# EAGLE library part MICRO-USB-SHIELD- (library ewheel32)
Hirose Micro USB Connector ZX62R-B-5P: Micro B, reverse (top mount) shell SMT Supplier: DigiKey H11574CT-ND Source: http://www.hirose.co.jp/cataloge_hp/e24200011.pdf
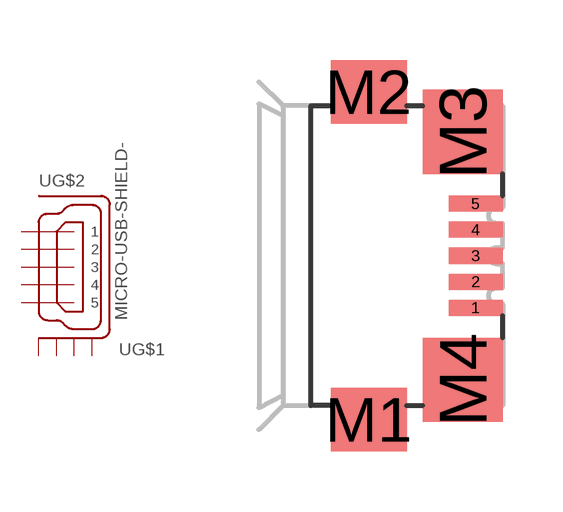
[diagram p2: symbol with the pads of ZX62R-B-5P; footprint ZX62R-B-5P]

Designator prefix -; gates G$1=USB-SHIELD G$2=MINI-USB

## MICRO-USB-SHIELD-ZX62R-B-5P  [ZX62R-B-5P]
1  G$2:1  in
2  G$2:2  in
3  G$2:3  in
4  G$2:4  in
5  G$2:5  in
M1  G$1:S1  pas
M2  G$1:S2  pas
M3  G$1:S3  pas
M4  G$1:S4  pas

## Footprint ZX62R-B-5P (pad centres in mm)
MINI USB Connector HI-SPEED Certified Metal Shield SMT Type Without Positioning Post Source: http://www.hirose.co.jp/cataloge_hp/e24000019.pdf
smd 1.35 x 0.4: 1 2.675,-1.3; 2 2.675,-0.65; 3 2.675,0; 4 2.675,0.65; 5 2.675,1.3
smd 1.9 x 1.6: M1 0,-4.1; M2 0,4.1
smd 2 x 2.1: M3 2.35,3.1; M4 2.35,-3.1